# EAGLE library part VICOR_FARM (library wheat)
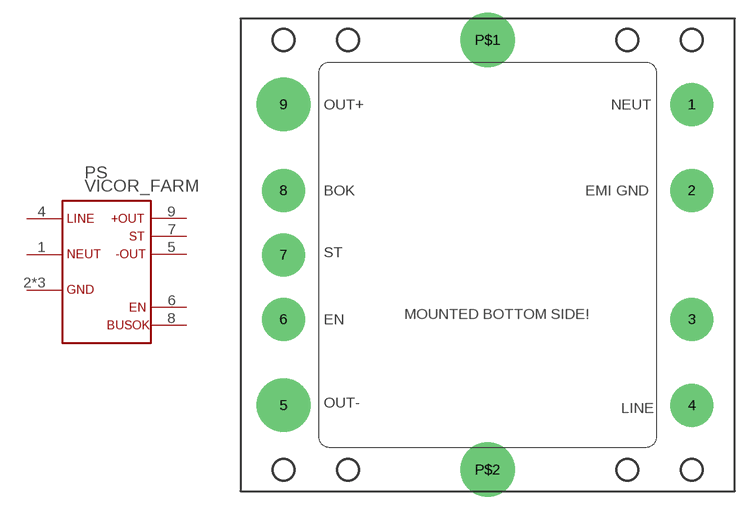
[diagram p257: symbol with the pads of VI_FARM; footprint VI_FARM]

Designator prefix PS

## VICOR_FARM  [VI_FARM]
1  NEUT  pas
2  GND  pas
4  LINE  pas
5  OUT-  pas
6  EN  pas
7  ST  pas
8  BUSOK  pas
9  OUT+  pas
P$1  GND  pas
P$2  GND  pas

## Footprint VI_FARM (pad centres in mm)
drill 2.388 pad 5.08: 1 24.13,17.78; 2 24.13,7.62; 3 24.13,-7.62; 4 24.13,-17.78; 6 -24.13,-7.62; 7 -24.13,0; 8 -24.13,7.62
drill 4.166 pad 6.35: 5 -24.13,-17.78; 9 -24.13,17.78
drill 3.2 pad 6.452: P$1 0,25.4; P$2 0,-25.4